# EAGLE library part OKOKOKEAGLELIBRARIES_74LVC2G02 (library rose)
The 74LVC2G02 provides a 2-input NOR gate function. Inputs can be driven from either 3.3 V or 5 V devices. This feature allows the use of these devices as translators in a mixed 3.3 V and 5 V environment. This device is fully specified for partial power-down applications using IOFF. The IOFF circuitry disables the output, preventing a damaging backflow current through the device when it is powered down. DATASHEET: http://www.nxp.com/documents/data_sheet/74LVC2G02.pdf MFN: 74LVC2G02DP,125
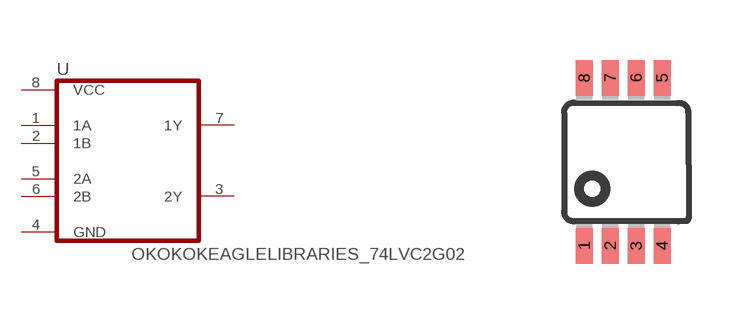
[diagram p1: symbol with the pads of OKOKOKEAGLELIBRARIES_TSSOP-8; footprint OKOKOKEAGLELIBRARIES_TSSOP-8]

Designator prefix U

## OKOKOKEAGLELIBRARIES_74LVC2G02 (MPN: 74LVC2G02DP,125)  [OKOKOKEAGLELIBRARIES_TSSOP-8]
1  1A
2  1B
3  2Y
4  GND
5  2A
6  2B
7  1Y
8  VCC

## Footprint OKOKOKEAGLELIBRARIES_TSSOP-8 (pad centres in mm)
smd 0.419 x 0.889: 1 -0.975,-2.1; 2 -0.325,-2.1; 3 0.325,-2.1; 4 0.975,-2.1; 5 0.975,2.1; 6 0.325,2.1; 7 -0.325,2.1; 8 -0.975,2.1